# Altium footprint library DZ_LIB.PcbLib: 89 footprints (part 4 of 6)
Each footprint in its own frame and in the unit in brackets; x right, y up, seen from the top. Pads: shape width x height; smd on the part's side, far side on the other; paste and mask are expansions set on the pad; w line width, h text height; cw(c..) or ccw(c..) is an arc to the next point about the centre after c.
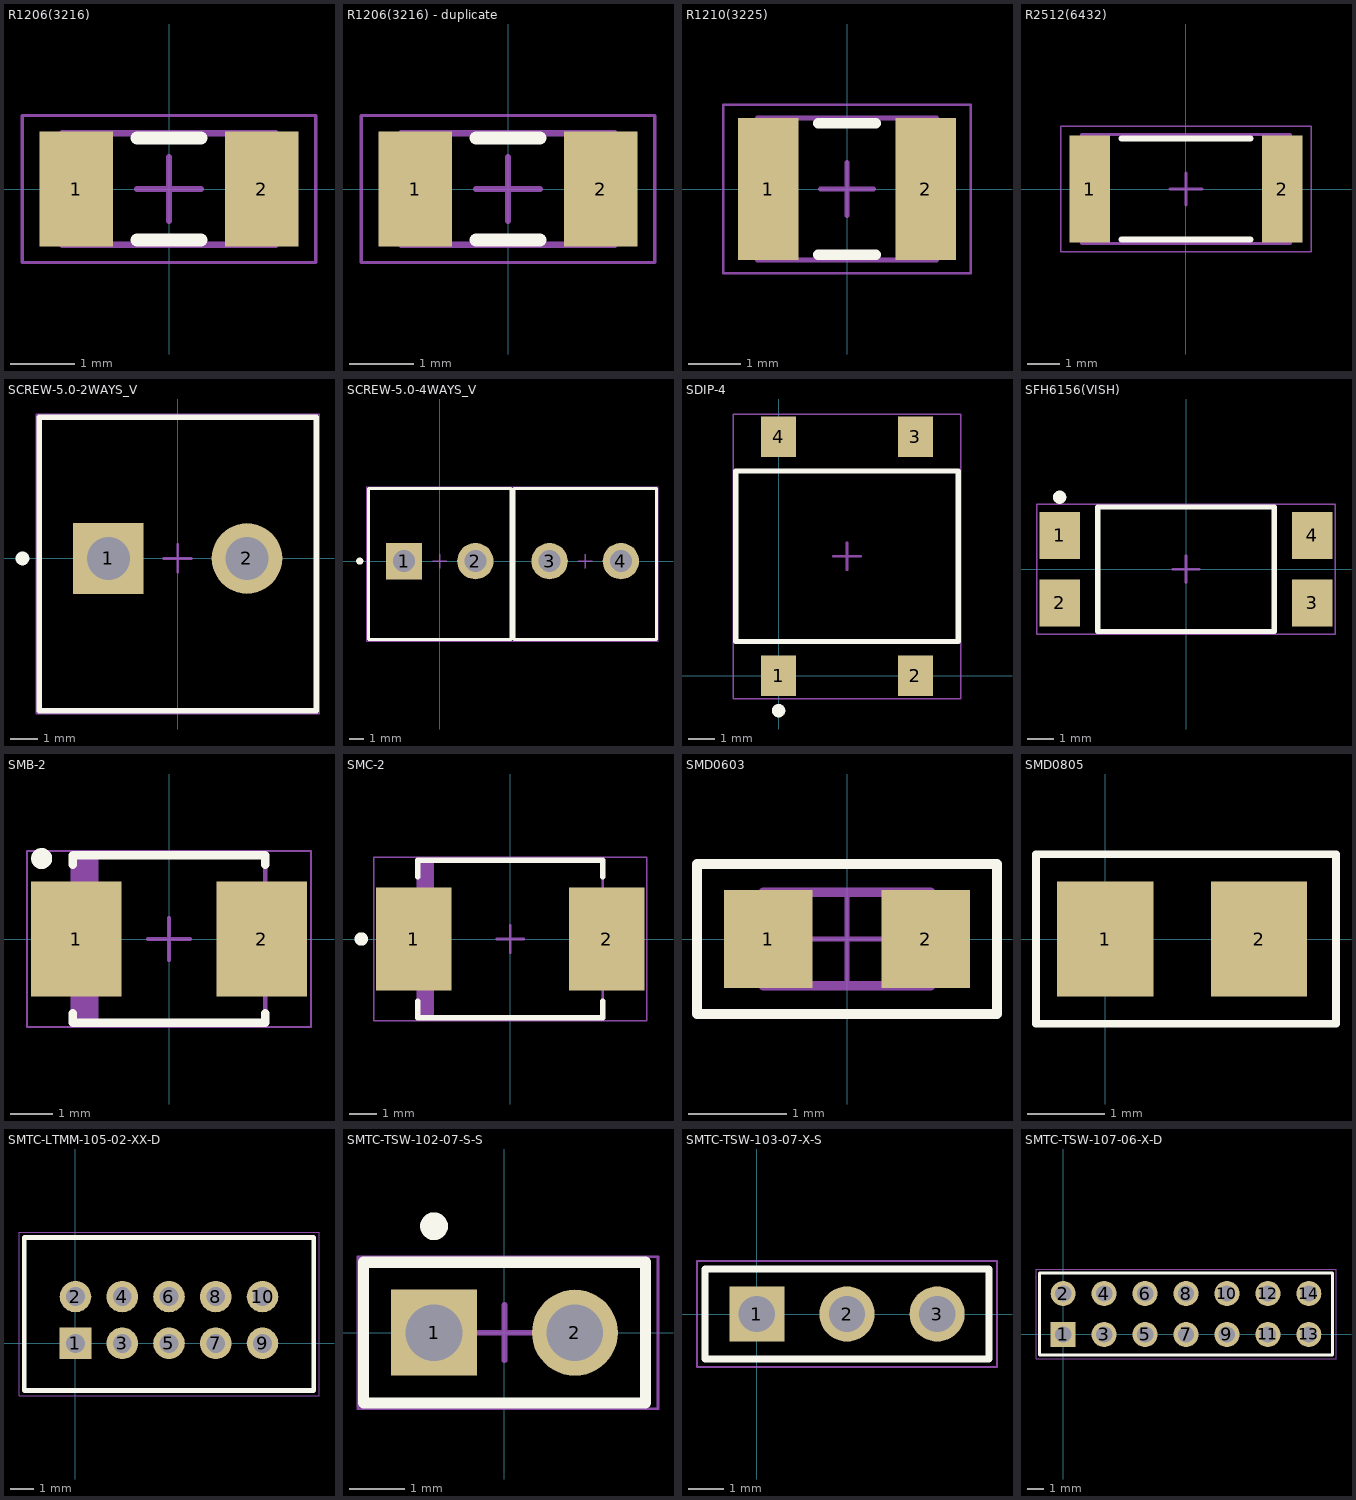
[diagram p3: the footprints below, top view; thin cyan lines are the x and y axes]

## R1206(3216) [mm] "Chip Resistor, Body 3.2x1.6mm, IPC Medium Density"
height 0.75
pads (2):
  rect 1.15x1.8 smd: 1(-1.45,0) 2(1.45,0)
Top Overlay:
  lines w0.2: -0.5,-0.8 0.5,-0.8 ; -0.5,0.8 0.5,0.8
Mechanical 13:
  lines w0.1: -1.675,-0.875 -1.675,0.875 1.675,0.875 1.675,-0.875 -1.675,-0.875
Mechanical 15:
  lines w0.05: -2.3,-1.15 -2.3,1.15 2.3,1.15 2.3,-1.15 -2.3,-1.15
  lines w0.1: -0.5,0 0.5,0 ; 0,-0.5 0,0.5
3D body: height 0.75, standoff 0, extent -1.674,-0.874 -1.18,0.875
3D body: height 0.75, standoff 0, extent -1.18,-0.874 1.181,0.875
3D body: height 0.75, standoff 0, extent 1.181,-0.874 1.675,0.875

## R1206(3216) - duplicate [mm] "Chip Resistor, Body 3.2x1.6mm, IPC Medium Density"
height 0.75
pads (2):
  rect 1.15x1.8 smd: 1(-1.45,0) 2(1.45,0)
Top Overlay:
  lines w0.2: -0.5,-0.8 0.5,-0.8 ; -0.5,0.8 0.5,0.8
Mechanical 13:
  lines w0.1: -1.675,-0.875 1.675,-0.875 1.675,0.875 -1.675,0.875 -1.675,-0.875
Mechanical 15:
  lines w0.05: -2.3,-1.15 2.3,-1.15 2.3,1.15 -2.3,1.15 -2.3,-1.15
  lines w0.1: -0.5,0 0.5,0 ; 0,-0.5 0,0.5
3D body: height 0.75, standoff 0, extent 1.181,-0.874 1.675,0.875
3D body: height 0.75, standoff 0, extent -1.18,-0.874 1.181,0.875
3D body: height 0.75, standoff 0, extent -1.674,-0.874 -1.18,0.875

## R1210(3225) [mm] "Chip Resistor, Body 3.2x2.5mm, IPC Medium Density"
height 0.71
pads (2):
  rect 1.15x2.7 smd: 1(-1.5,0) 2(1.5,0)
Top Overlay:
  lines w0.2: -0.55,-1.25 0.55,-1.25 ; -0.55,1.25 0.55,1.25
Mechanical 13:
  lines w0.1: -1.7,-1.35 1.7,-1.35 1.7,1.35 -1.7,1.35 -1.7,-1.35
Mechanical 15:
  lines w0.05: -2.35,-1.6 2.35,-1.6 2.35,1.6 -2.35,1.6 -2.35,-1.6
  lines w0.1: -0.5,0 0.5,0 ; 0,-0.5 0,0.5
3D body: height 0.71, standoff 0, extent 1.179,-1.351 1.698,1.349
3D body: height 0.71, standoff 0, extent -1.698,-1.349 -1.178,1.351
3D body: height 0.71, standoff 0, extent -1.182,-1.35 1.182,1.35

## R2512(6432) [mm] "Chip Resistor, Body 6.4x3.2mm, IPC Medium Density"
height 0.75
pads (2):
  rect 1.25x3.35 smd: 1(-3,0) 2(3,0)
Top Overlay:
  lines w0.2: -2,-1.575 2,-1.575 ; -2,1.575 2,1.575
Mechanical 13:
  lines w0.1: -3.25,-1.7 3.25,-1.7 3.25,1.7 -3.25,1.7 -3.25,-1.7
Mechanical 15:
  lines w0.05: -3.9,-1.95 3.9,-1.95 3.9,1.95 -3.9,1.95 -3.9,-1.95
  lines w0.1: -0.5,0 0.5,0 ; 0,-0.5 0,0.5
3D body: height 0.75, standoff 0, extent -3.25,-1.7 -2.63,1.7
3D body: height 0.75, standoff 0, extent -2.63,-1.7 2.63,1.7
3D body: height 0.75, standoff 0, extent 2.63,-1.7 3.25,1.7

## SCREW-5.0-2WAYS_V [mm] "Socket, Screw Terminal Block, 2-Leads, Pitch 5mm, 90 Degree Angle, Through-Hole"
height 18.2
pads (2):
  rect 2.55x2.55 hole 1.55: 1(-2.5,0)
  round 2.55 hole 1.55: 2(2.5,0)
Top Overlay:
  circle w0.25: c-5.6,0 r0.125
  lines w0.2: -5,-5.5 -5,5.1 5,5.1 5,-5.5 -5,-5.5
Mechanical 13:
  lines w0.1: -5,-5.5 5,-5.5 5,5.1 -5,5.1 -5,-5.5
Mechanical 15:
  lines w0.05: -5.1,-5.6 -5.1,5.2 5.1,5.2 5.1,-5.6 -5.1,-5.6
  lines w0.1: -0.5,0 0.5,0 ; 0,-0.5 0,0.5
3D body: height 17.7, standoff 17.2, extent 0.754,0.246 2.254,1.746
3D body: height 17.7, standoff 17.2, extent 2.746,0.246 4.246,1.746
3D body: height 17.7, standoff 17.2, extent 0.754,-1.746 2.254,-0.246
3D body: height 17.7, standoff 17.2, extent 2.746,-1.746 4.246,-0.246
3D body: height 17.7, standoff 17.2, extent -4.246,0.246 -2.746,1.746
3D body: height 17.7, standoff 17.2, extent -2.254,0.246 -0.754,1.746
3D body: height 17.7, standoff 17.2, extent -4.246,-1.746 -2.746,-0.246
3D body: height 17.7, standoff 17.2, extent -2.254,-1.746 -0.754,-0.246
3D body: height 18.2, standoff 17.2, extent -4.981,0.001 5.018,2.5
3D body: height 18.2, standoff 17.2, extent -5,-2.5 4.999,-0.001
3D body: height 18.2, standoff 12, extent -5,-5.5 5,3.05
3D body: height 0.01, standoff -5.07, extent 2,-0.4 3,0.4
3D body: height 0.01, standoff -5.07, extent -3,-0.4 -2,0.4
3D body: height 12, standoff 9, extent -5,-5.5 5,3.05
3D body "2.step": height 9.01, standoff 0.01, extent -5,-5.5 4.999,5.1

## SCREW-5.0-4WAYS_V [mm] "Socket, Screw Terminal Block, 2-Leads, Pitch 5mm, 90 Degree Angle, Through-Hole"
height 18.2
pads (4):
  rect 2.55x2.55 hole 1.55: 1(-2.5,0)
  round 2.55 hole 1.55: 2(2.5,0) 3(7.7,0) 4(12.7,0)
Top Overlay:
  circle w0.25: c-5.6,0 r0.125
  lines w0.2: -5,-5.5 5,-5.5 5,5.1 -5,5.1 -5,-5.5 ; 5.2,-5.5 5.2,5.1 15.2,5.1 15.2,-5.5 5.2,-5.5
Mechanical 13:
  lines w0.1: -5,-5.5 -5,5.1 5,5.1 5,-5.5 -5,-5.5 ; 5.2,-5.5 15.2,-5.5 15.2,5.1 5.2,5.1 5.2,-5.5
Mechanical 15:
  lines w0.05: 5.1,-5.6 5.1,5.2 ; 5.1,-5.6 15.3,-5.6 15.3,5.2 5.1,5.2 ; 5.1,-5.6 -5.1,-5.6 -5.1,5.2 5.1,5.2 ; 5.1,-5.6 5.1,5.2
  lines w0.1: -0.5,0 0.5,0 ; 0,-0.5 0,0.5 ; 9.7,0 10.7,0 ; 10.2,-0.5 10.2,0.5
3D body: height 17.7, standoff 17.2, extent 10.954,0.246 12.454,1.746
3D body: height 17.7, standoff 17.2, extent 12.946,0.246 14.446,1.746
3D body: height 17.7, standoff 17.2, extent 10.954,-1.746 12.454,-0.246
3D body: height 17.7, standoff 17.2, extent 12.946,-1.746 14.446,-0.246
3D body: height 17.7, standoff 17.2, extent 5.954,0.246 7.454,1.746
3D body: height 17.7, standoff 17.2, extent 7.946,0.246 9.446,1.746
3D body: height 17.7, standoff 17.2, extent 5.954,-1.746 7.454,-0.246
3D body: height 17.7, standoff 17.2, extent 7.946,-1.746 9.446,-0.246
3D body: height 18.2, standoff 17.2, extent 5.219,0.001 15.218,2.5
3D body: height 18.2, standoff 17.2, extent 5.2,-2.5 15.199,-0.001
3D body: height 18.2, standoff 12, extent 5.2,-5.5 15.2,3.05
3D body: height 0.01, standoff -5.07, extent 12.2,-0.4 13.2,0.4
3D body: height 0.01, standoff -5.07, extent 7.2,-0.4 8.2,0.4
3D body: height 12, standoff 9, extent 5.2,-5.5 15.2,3.05
3D body "2.step": height 9.01, standoff 0.01, extent 5.2,-5.5 15.199,5.1
3D body "2.step": height 9.01, standoff 0.01, extent -5,-5.5 4.999,5.1
3D body: height 12, standoff 9, extent -5,-5.5 5,3.05
3D body: height 0.01, standoff -5.07, extent -3,-0.4 -2,0.4
3D body: height 0.01, standoff -5.07, extent 2,-0.4 3,0.4
3D body: height 18.2, standoff 12, extent -5,-5.5 5,3.05
3D body: height 18.2, standoff 17.2, extent -5,-2.5 4.999,-0.001
3D body: height 18.2, standoff 17.2, extent -4.981,0.001 5.018,2.5
3D body: height 17.7, standoff 17.2, extent -2.254,-1.746 -0.754,-0.246
3D body: height 17.7, standoff 17.2, extent -4.246,-1.746 -2.746,-0.246
3D body: height 17.7, standoff 17.2, extent -2.254,0.246 -0.754,1.746
3D body: height 17.7, standoff 17.2, extent -4.246,0.246 -2.746,1.746
3D body: height 17.7, standoff 17.2, extent 2.746,-1.746 4.246,-0.246
3D body: height 17.7, standoff 17.2, extent 0.754,-1.746 2.254,-0.246
3D body: height 17.7, standoff 17.2, extent 2.746,0.246 4.246,1.746
3D body: height 17.7, standoff 17.2, extent 0.754,0.246 2.254,1.746

## SDIP-4 [mm] "SMD, 4-Leads, Body 8.28x6.35mm, Pitch 5.1mm"
height 2.84
pads (4):
  rect 1.3x1.5 smd: 1(0,0) 2(5.1,0) 3(5.1,8.9) 4(0,8.9)
Top Overlay:
  circle w0.25: c0,-1.3 r0.125
  lines w0.2: -1.59,1.275 -1.59,7.625 6.69,7.625 6.69,1.275 -1.59,1.275
Mechanical 13:
  lines w0.1: -1.59,1.275 -1.59,7.625 6.69,7.625 6.69,1.275 -1.59,1.275
Mechanical 15:
  lines w0.05: -1.69,-0.85 6.79,-0.85 6.79,9.75 -1.69,9.75 -1.69,-0.85
  lines w0.1: 2.05,4.45 3.05,4.45 ; 2.55,3.95 2.55,4.95
3D body: height 2.84, standoff 0.08, extent -1.59,1.275 6.69,7.625

## SFH6156(VISH) [mm] "SMD, 4-Leads, Body 6.645x4.69mm, Pitch 2.54mm"
height 4.059
pads (4):
  rect 1.525x1.78 smd: 1(-4.763,1.27) 2(-4.763,-1.27) 3(4.763,-1.27) 4(4.763,1.27)
Top Overlay:
  circle w0.25: c-4.763,2.71 r0.125
  lines w0.2: -3.323,-2.345 -3.323,2.345 3.323,2.345 3.323,-2.345 -3.323,-2.345
Mechanical 13:
  lines w0.1: -3.323,-2.345 3.323,-2.345 3.323,2.345 -3.323,2.345 -3.323,-2.345
Mechanical 15:
  lines w0.05: -5.625,-2.445 -5.625,2.445 5.625,2.445 5.625,-2.445 -5.625,-2.445
  lines w0.1: -0.5,0 0.5,0 ; 0,-0.5 0,0.5
3D body: height 4.06, standoff 0.1, extent -3.323,-2.345 3.323,2.345

## SMB-2 [mm] "Molded, 2-Leads, Body 4.6x3.95mm"
height 2.47
pads (2):
  rect 2.159x2.743 smd: 1(-2.21,0) 2(2.21,0)
Top Overlay:
  circle w0.25: c-3.04,1.921 r0.125
  lines w0.2: -2.3,-1.772 -2.3,-2 2.3,-2 2.3,-1.772 ; -2.3,1.772 -2.3,2 2.3,2 2.3,1.772
Mechanical 13:
  rectangle: -2.3,-1.975 -1.681,1.975
  lines w0.1: -2.3,-1.975 2.3,-1.975 2.3,1.975 -2.3,1.975 -2.3,-1.975
Mechanical 15:
  lines w0.05: -3.39,-2.1 3.39,-2.1 3.39,2.1 -3.39,2.1 -3.39,-2.1
  lines w0.1: -0.5,0 0.5,0 ; 0,-0.5 0,0.5
3D body: height 2.47, standoff 0, extent -2.3,-1.975 2.3,1.975

## SMC-2 [mil] "Molded, 2-Leads, Body 6.86x5.84mm"
height 99.02
pads (2):
  rect 110x150 smd: 1(-140.49,0) 2(140.49,0)
Top Overlay:
  circle w9.84: c-217.15,0 r4.92
  lines w7.87: -135.04,-90.75 -135.04,-114.96 135.04,-114.96 135.04,-90.75 ; -135.04,90.75 -135.04,114.96 135.04,114.96 135.04,90.75
Mechanical 13:
  rectangle: -135.45,-114.96 -111.25,114.96
  lines w3.94: -135.04,-114.96 -135.04,114.96 135.04,114.96 135.04,-114.96 -135.04,-114.96
Mechanical 15:
  lines w1.97: -199.43,-118.9 -199.43,118.9 199.43,118.9 199.43,-118.9 -199.43,-118.9
  lines w3.94: -19.68,0 19.69,0 ; 0,-19.68 0,19.68
3D body: height 99.02, standoff 1.97, extent -135.04,-114.96 135.04,114.96

## SMD0603 [mm] "Chip Resistor, Body 1.6x0.8mm, IPC Medium Density"
height 0.6
pads (2):
  rect 0.9x1 smd: 1(-0.8,0) 2(0.8,0)
Top Overlay:
  lines w0.1: -1.524,-0.762 1.524,-0.762 1.524,0.762 -1.524,0.762 -1.524,-0.762
Mechanical 13:
  lines w0.1: -0.85,-0.475 -0.85,0.475 0.85,0.475 0.85,-0.475 -0.85,-0.475
Mechanical 15:
  lines w0.05: -0.475,0 0.475,0 ; 0,-0.475 0,0.475 ; -1.5,-0.75 -1.5,0.75 1.5,0.75 1.5,-0.75 -1.5,-0.75
3D body: height 0.6, standoff 0, extent 0.581,-0.474 0.85,0.475
3D body: height 0.6, standoff 0, extent -0.58,-0.474 0.581,0.475
3D body: height 0.6, standoff 0, extent -0.849,-0.474 -0.58,0.475

## SMD0805 [mm] "Chip Resistor, Body 2.0x1.3mm, IPC Low Density"
height 0.7
pads (2):
  rect 1.25x1.5 smd: 1(0,0) 2(2,0)
Top Overlay:
  lines w0.1: -0.9,-1.1 -0.9,1.1 3,1.1 3,-1.1 -0.9,-1.1
3D body: height 0.7, standoff 0, extent 1.73,-0.675 2.15,0.675
3D body: height 0.7, standoff 0, extent 0.37,-0.675 1.73,0.675
3D body: height 0.7, standoff 0, extent -0.05,-0.675 0.37,0.675

## SMTC-LTMM-105-02-XX-D [mm] "Shrouded Header & Stacker, 2x5 Pins, Vertical, 2mm Pitch, Male"
height 4.826
pads (10):
  rect 1.35x1.35 hole 0.81: 1(0,0)
  round 1.35 hole 0.81: 2(0,2) 3(2,0) 4(2,2) 5(4,0) 6(4,2) 7(6,0) 8(6,2) 9(8,0) 10(8,2)
Top Overlay:
  lines w0.2: -2.191,-2.015 10.192,-2.015 10.192,4.525 -2.191,4.525 -2.191,-2.015
Mechanical 13:
  lines w0.1: -2.191,-2.015 -2.191,4.525 10.192,4.525 10.192,-2.015 -2.191,-2.015
Mechanical 15:
  lines w0.05: -2.416,-2.24 -2.416,4.75 10.416,4.75 10.416,-2.24 -2.416,-2.24
3D body "LTMM-105-02-XX-D.step": height 4.83, standoff -2.97, extent -2.191,-2.015 10.192,4.523

## SMTC-TSW-102-07-S-S [mm] "Header, 2-Leads, Body 5.08x2.54mm, Pitch 2.54mm"
height 8.38
pads (2):
  rect 1.55x1.55 hole 1.02: 1(-1.27,0)
  round 1.55 hole 1.02: 2(1.27,0)
Top Overlay:
  circle w0.25: c-1.27,1.92 r0.125
  lines w0.2: -2.54,-1.27 2.54,-1.27 2.54,1.27 -2.54,1.27 -2.54,-1.27
Mechanical 13:
  lines w0.1: -2.54,-1.27 2.54,-1.27 2.54,1.27 -2.54,1.27 -2.54,-1.27
Mechanical 15:
  lines w0.05: -2.64,-1.37 -2.64,1.37 2.767,1.37 2.767,-1.37 -2.64,-1.37
  lines w0.1: -0.5,0 0.5,0 ; 0,-0.5 0,0.5
3D body "TSW-102-07-S-S.stp": height 8.38, standoff -2.54, extent -2.54,-1.27 2.667,1.27

## SMTC-TSW-103-07-X-S [mm] ".025 SQ Post Terminal Strip Assembly, 1x3 Pins, Vertical, 2.54mm Pitch, Male"
height 8.58
pads (3):
  rect 1.55x1.55 hole 1.02: 1(0,0)
  round 1.55 hole 1.02: 2(2.54,0) 3(5.08,0)
Top Overlay:
  lines w0.2: -1.46,-1.27 -1.46,1.27 6.54,1.27 6.54,-1.27 -1.46,-1.27
Mechanical 13:
  lines w0.1: -1.46,-1.27 -1.46,1.27 6.54,1.27 6.54,-1.27 -1.46,-1.27
Mechanical 15:
  lines w0.05: -1.685,-1.495 -1.685,1.495 6.765,1.495 6.765,-1.495 -1.685,-1.495
3D body "TSW-103-07-X-S.step": height 8.38, standoff -2.54, extent -1.27,-1.27 6.35,1.27

## SMTC-TSW-107-06-X-D [mm] ".025 SQ Post Terminal Strip Assembly, 2x7 Pins, Vertical, 2.54mm Pitch, Male"
height 5.41
pads (14):
  rect 1.55x1.55 hole 1.02: 1(0,0)
  round 1.55 hole 1.02: 2(0,2.54) 3(2.54,0) 4(2.54,2.54) 5(5.08,0) 6(5.08,2.54) 7(7.62,0) 8(7.62,2.54) 9(10.16,0) 10(10.16,2.54) 11(12.7,0) 12(12.7,2.54) 13(15.24,0) 14(15.24,2.54)
Top Overlay:
  lines w0.2: -1.46,-1.27 16.7,-1.27 16.7,3.81 -1.46,3.81 -1.46,-1.27
Mechanical 13:
  lines w0.1: -1.46,-1.27 16.7,-1.27 16.7,3.81 -1.46,3.81 -1.46,-1.27
Mechanical 15:
  lines w0.05: -1.685,-1.495 16.925,-1.495 16.925,4.035 -1.685,4.035 -1.685,-1.495
3D body "TSW-107-06-X-D.step": height 5.21, standoff -2.41, extent -1.27,-1.27 16.51,3.81